# EAGLE library part X9C103SZ (library X9C103SZ)
DIGITAL POT Check prices <https://pricing.snapeda.com/parts/X9C103SZ/Renesas%20Electronics/view-part?ref=eda>
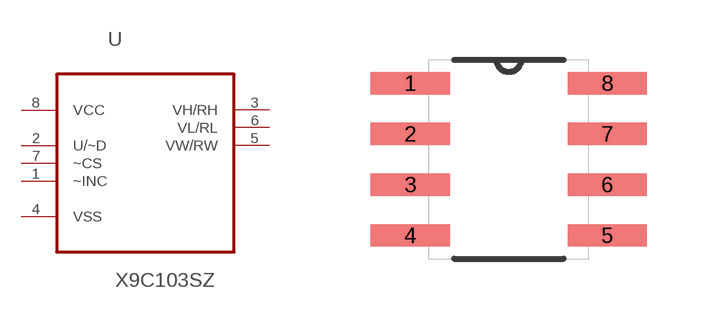
[diagram p0: symbol with the pads of SOIC127P600X175-8N; footprint SOIC127P600X175-8N]

Designator prefix U

## X9C103SZ (Availability: Good; Description: Digital Potentiometer 10k Ohm 1 Circuit 100 Taps Up/Down (U/D, INC, CS) Interface 8-SOIC; MF: Renesas Electronics; MP: X9C103SZ; Package: SOIC-8 Intersil; Price: None; Purchase-URL: https://pricing.snapeda.com/search/part/X9C103SZ/?ref=eda)  [SOIC127P600X175-8N]
1  ~INC  in
2  U/~D  in
3  VH/RH  pas
4  VSS  pas
5  VW/RW  pas
6  VL/RL  pas
7  ~CS  in
8  VCC  pwr

## Footprint SOIC127P600X175-8N (pad centres in mm)
smd 1.981 x 0.559: 1 -2.464,1.905; 2 -2.464,0.635; 3 -2.464,-0.635; 4 -2.464,-1.905; 5 2.464,-1.905; 6 2.464,-0.635; 7 2.464,0.635; 8 2.464,1.905